# EAGLE library part LM318 (library op-amp)
OP-AMP General Purpose
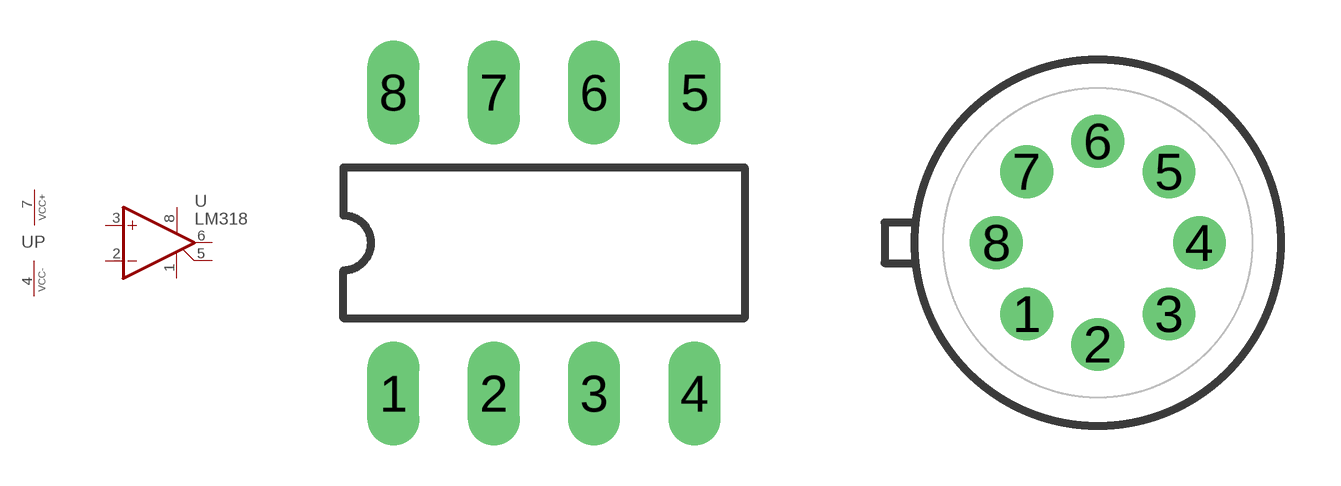
[diagram p87: symbol with the pads of DIL08; footprints DIL08, TO99]

Designator prefix U; gates G$1=OPAMP_PV P=PWRN_VCC+- G$2=_COMP1 G$3=_COMP2 G$4=_COMP3

## LM318P  [DIL08]
1  G$2:COMP1  pas
2  G$1:-IN  in
3  G$1:+IN  in
4  P:VCC-  pwr
5  G$4:COMP3  pas
6  G$1:OUT  out
7  P:VCC+  pwr
8  G$3:COMP2  pas

## LM318H  [TO99]
Pads as for DIL08

## LM318D  [SO08]
Pads as for DIL08

## Footprint DIL08 (pad centres in mm)
Dual In Line Package
drill 0.813 long: 1 -3.81,-3.81; 2 -1.27,-3.81; 3 1.27,-3.81; 4 3.81,-3.81; 5 3.81,3.81; 6 1.27,3.81; 7 -1.27,3.81; 8 -3.81,3.81

## Footprint TO99 (pad centres in mm)
Metal can Package
drill 0.813: 1 -1.778,-1.778; 2 0,-2.54; 3 1.778,-1.778; 4 2.54,0; 5 1.778,1.778; 6 0,2.54; 7 -1.778,1.778; 8 -2.54,0

## Footprint SO08 (pad centres in mm)
SMALL OUTLINE INTEGRATED CIRCUIT body 3.9 mm/JEDEC MS-012AA
smd 0.6 x 2.2: 1 -1.905,-2.6; 2 -0.635,-2.6; 3 0.635,-2.6; 4 1.905,-2.6; 5 1.905,2.6; 6 0.635,2.6; 7 -0.635,2.6; 8 -1.905,2.6